# Altium footprint library GAPlib_CONNECTOR.PcbLib: 26 footprints (part 2 of 2)
Each footprint in its own frame and in the unit in brackets; x right, y up, seen from the top. Pads: shape width x height; smd on the part's side, far side on the other; paste and mask are expansions set on the pad; w line width, h text height; cw(c..) or ccw(c..) is an arc to the next point about the centre after c.
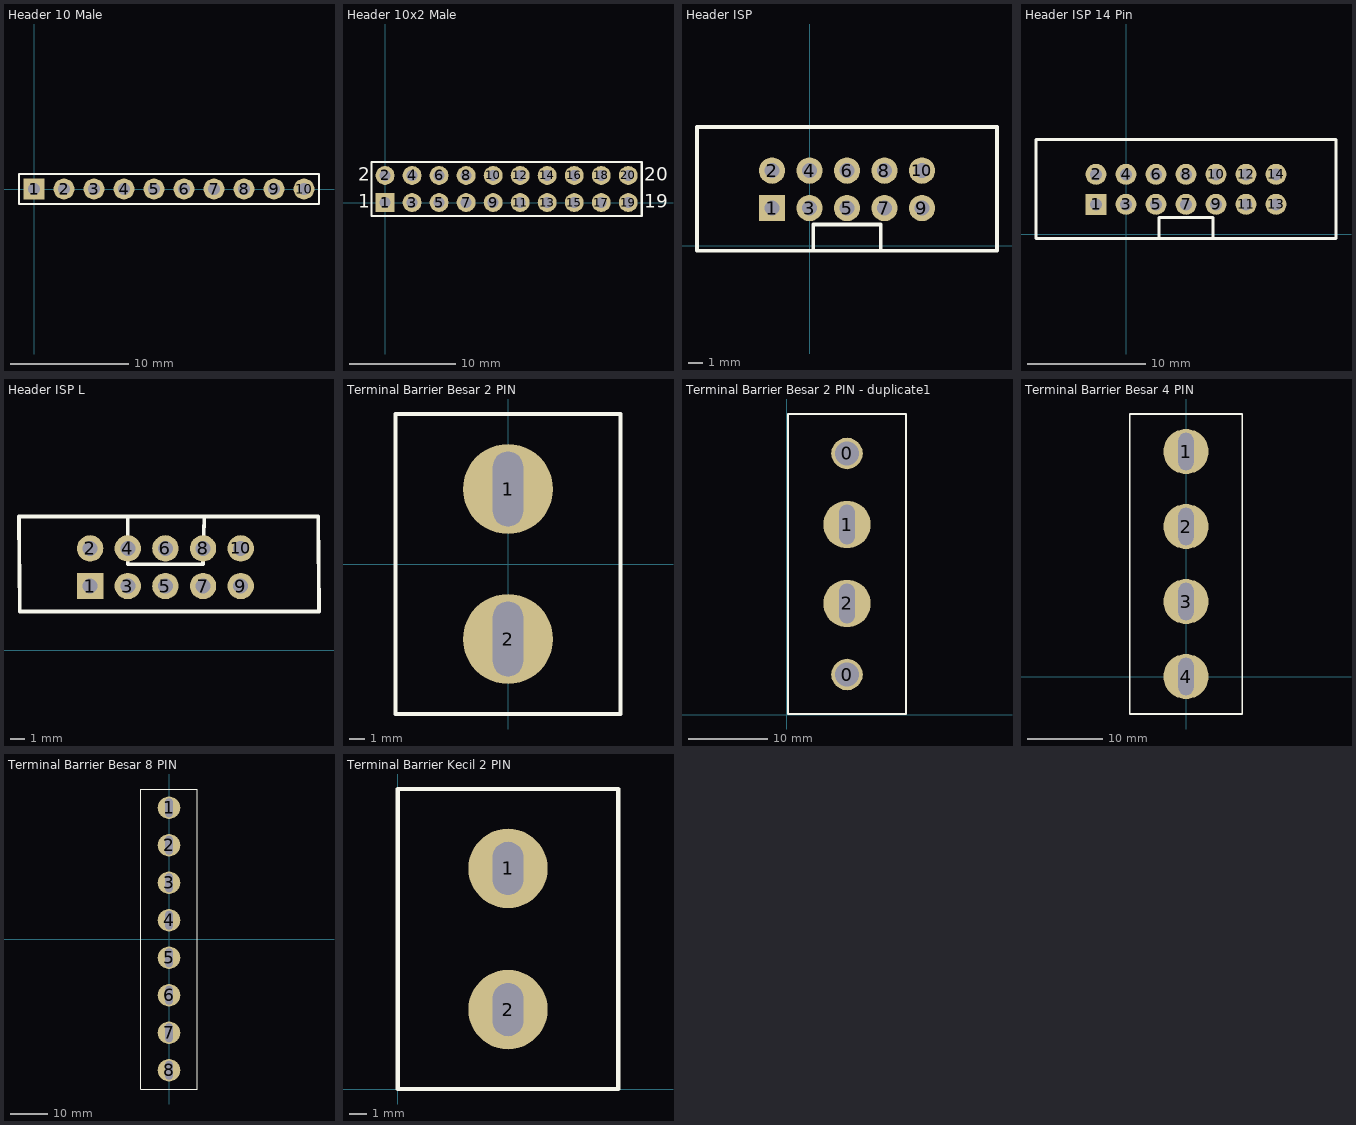
[diagram p1: the footprints below, top view; thin cyan lines are the x and y axes]

## Header 10 Male [mil]
pads (10):
  rect 70x70 hole 40: 1(0,0)
  round 70 hole 40: 2(100,0) 3(200,0) 4(300,0) 5(400,0) 6(500,0) 7(600,0) 8(700,0) 9(800,0) 10(900,0)
Top Overlay:
  lines w7.87: -50,-50 -50,50 25,50 950,50 950,-50 -50,-50
3D body "2.54X2_pinheader_male.SLDPRT": height 326.77, standoff -224.41, extent -50,-50 150,50
3D body "2.54X2_pinheader_male.SLDPRT": height 326.77, standoff -224.41, extent 150,-50 350,50
3D body "2.54X2_pinheader_male.SLDPRT": height 326.77, standoff -224.41, extent 350,-49.99 550,50.01
3D body "2.54X2_pinheader_male.SLDPRT": height 326.77, standoff -224.41, extent 550,-49.99 750,50.01
3D body "2.54X2_pinheader_male.SLDPRT": height 326.77, standoff -224.41, extent 750.01,-49.99 950.01,50.01

## Header 10x2 Male [mil]
pads (20):
  rect 70x70 hole 40: 1(0,0)
  round 70 hole 40: 2(0,100) 3(100,0) 4(100,100) 5(200,0) 6(200,100) 7(300,0) 8(300,100) 9(400,0) 10(400,100) 11(500,0) 12(500,100) 13(600,0) 14(600,100) 15(700,0) 16(700,100) 17(800,0) 18(800,100) 19(900,0) 20(900,100)
Top Overlay:
  lines w7.87: -50,-50 25,-50 950,-50 950,150 25,150 -50,150 -50,-50
  text "20" at 960,80 h50
  text "19" at 960,-20 h50
  text "1" at -100,-20 h50
  text "2" at -100,80 h50
3D body "2.54X2_pinheader_male.SLDPRT": height 326.77, standoff -224.41, extent -50,-50 50,150
3D body "2.54X2_pinheader_male.SLDPRT": height 326.77, standoff -224.41, extent 50,-49.99 150,150.01
3D body "2.54X2_pinheader_male.SLDPRT": height 326.77, standoff -224.41, extent 150,-49.99 250,150.01
3D body "2.54X2_pinheader_male.SLDPRT": height 326.77, standoff -224.41, extent 250,-49.99 350,150.01
3D body "2.54X2_pinheader_male.SLDPRT": height 326.77, standoff -224.41, extent 350,-49.99 450,150.01
3D body "2.54X2_pinheader_male.SLDPRT": height 326.77, standoff -224.41, extent 450,-49.99 550,150.01
3D body "2.54X2_pinheader_male.SLDPRT": height 326.77, standoff -224.41, extent 550,-49.99 650,150.01
3D body "2.54X2_pinheader_male.SLDPRT": height 326.77, standoff -224.41, extent 650,-49.99 750,150.01
3D body "2.54X2_pinheader_male.SLDPRT": height 326.77, standoff -224.41, extent 750,-49.99 850,150.01
3D body "2.54X2_pinheader_male.SLDPRT": height 326.77, standoff -224.41, extent 850,-50 950,150

## Header ISP [mil]
pads (10):
  rect 70x70 hole 40: 1(-100,100)
  round 70 hole 40: 2(-100,200) 3(0,100) 4(0,200) 5(100,100) 6(100,200) 7(200,100) 8(200,200) 9(300,100) 10(300,200)
Top Overlay:
  lines w10: 10,-14 10,56 190,56 190,-14 ; -300,-14 500,-14 500,316 -300,316 -300,-14
3D body "BG046-10-X-0300-X-X_revC.x_t": height 364.73, standoff -111.64, extent -299.96,-20.07 501.22,334.26

## Header ISP 14 Pin [mil]
pads (14):
  rect 70x70 hole 40: 1(-100,100)
  round 70 hole 40: 2(-100,200) 3(0,100) 4(0,200) 5(100,100) 6(100,200) 7(200,100) 8(200,200) 9(300,100) 10(300,200) 11(400,100) 12(400,200) 13(500,100) 14(500,200)
Top Overlay:
  lines w10: 110,-14 110,56 290,56 290,-14 ; -300,-14 700,-14 700,316 -300,316 -300,-14

## Header ISP L [mil]
pads (10):
  rect 70x70 hole 40: 1(592,171)
  round 70 hole 40: 2(592,271) 3(692,171) 4(692,271) 5(792,171) 6(792,271) 7(892,171) 8(892,271) 9(992,171) 10(992,271)
Top Overlay:
  lines w10: 692,356 692,229 892,229 895,356 ; 403,356 1198,356 1200,103 405,103 403,356

## Terminal Barrier Besar 2 PIN [mm] "Tanpa Kuping"
pads (2):
  round 6 hole 2 slot 5 at 90 deg: 1(0,5) 2(0,-5)
Top Overlay:
  lines w0.254: -7.5,-10 -7.5,10 7.5,10 7.5,-10 -7.5,-10
3D body "User Library-Screw terminal block 9_5mm.X_T": height 18.5, standoff -5, extent -8.245,-10.541 8.255,10.509
3D body "??????? ??????? TRI-1,25-4.x_t": height 14.75, standoff 9.25, extent -18.3,1.051 3.95,8.949
3D body "??????? ??????? TRI-1,25-4.x_t": height 14.75, standoff 9.25, extent -18.3,-8.949 3.95,-1.051

## Terminal Barrier Besar 2 PIN - duplicate1 [mm] "Dengan Kuping"
pads (4):
  round 4 hole 3: 0(7.62,5.097) 0(7.62,33.097)
  round 6 hole 2 slot 5 at 90 deg: 1(7.62,24.097) 2(7.62,14.097)
Top Overlay:
  lines w0.254: 0.12,0.097 15.12,0.097 15.12,38.097 0.12,38.097 0.12,0.097
3D body "Molex 38720-3202.SLDPRT": height 18.58, standoff -11.01, extent -0.317,-0.584 15.304,38.938

## Terminal Barrier Besar 4 PIN [mm] "Tanpa Kuping"
pads (4):
  round 6 hole 2 slot 5 at 90 deg: 1(0,30) 2(0,20) 3(0,10) 4(0,0)
Top Overlay:
  lines w0.254: -7.5,-5 -7.5,35 7.5,35 7.5,-5 -7.5,-5
3D body "Treminal Lug.SLDPRT": height 14.64, standoff 9.99, extent -4.089,-3.706 18.389,4.469
3D body "??????? ??????? TRI-1,25-4.SLDPRT": height 14.75, standoff 9.25, extent -4.077,25.642 18.173,33.54
3D body "User Library-Screw terminal block 9_5mm.X_T": height 18.5, standoff -5, extent -8.128,14.256 8.372,35.306
3D body "User Library-Screw terminal block 9_5mm.X_T": height 18.5, standoff -5, extent -8.128,-5.302 8.372,15.748
3D body "??????? ??????? TRI-1,25-4.SLDPRT": height 14.75, standoff 9.25, extent -3.95,6.051 18.3,13.949
3D body "Treminal Lug.SLDPRT": height 14.64, standoff 9.99, extent -4.09,15.912 18.389,24.088

## Terminal Barrier Besar 8 PIN [mm] "Tanpa Kuping"
pads (8):
  round 6 hole 2 slot 5 at 90 deg: 1(0,35) 2(0,25) 3(0,15) 4(0,5) 5(0,-5) 6(0,-15) 7(0,-25) 8(0,-35)
Top Overlay:
  lines w0.254: -7.5,-40 -7.5,40 7.5,40 7.5,-40 -7.5,-40
3D body "User Library-Screw terminal block 9_5mm.X_T": height 18.5, standoff -5, extent -8.255,19.209 8.245,40.259
3D body "User Library-Screw terminal block 9_5mm.X_T": height 18.5, standoff -5, extent -8.255,-0.857 8.245,20.193
3D body "User Library-Screw terminal block 9_5mm.X_T": height 18.5, standoff -5, extent -8.25,-20.574 8.25,0.476
3D body "User Library-Screw terminal block 9_5mm.X_T": height 18.5, standoff -5, extent -8.255,-40.227 8.245,-19.177

## Terminal Barrier Kecil 2 PIN [mm] "Tanpa Kuping"
pads (2):
  round 4.5 hole 1.75 slot 3 at 90 deg: 1(6.25,12.5) 2(6.25,4.5)
Top Overlay:
  lines w0.254: 0,0 0,17 12.5,17 12.5,0 0,0